# Altium schematic symbol library ERA-6AEB103V.SchLib: 1 symbol
Pins are listed as number, name and electrical type; pins without a type are passive.

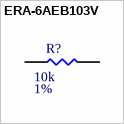
[diagram p0: symbol ERA-6AEB103V]

## ERA-6AEB103V
designator R?  Tolerance: 1%  Resistance: 10k  (hidden comment: ERA-6AEB103V)
Thin Film Resistors - SMD 0805 1/8W 10Kohms; Mfr: Panasonic; Qualifications: AEC-Q200; Mfr #: ERA-6AEB103V; Footprint: RES0805; ComponentLink1Description: Datasheet; ComponentLink1URL: https://www.mouser.ca/datasheet/2/315/AOA0000C307-1149632.pdf; Power Rating: 1/8W; Package: 0805; Supplier 1: Digi-Key; Supplier Part Number 1: P10KDACT-ND
footprint RES0805 (Generic 0805 PCB Footprint)
pins: 1, 2